# Altium integrated library ECE AD19Components_22V1.IntLib: 365 symbols (part 3 of 4)
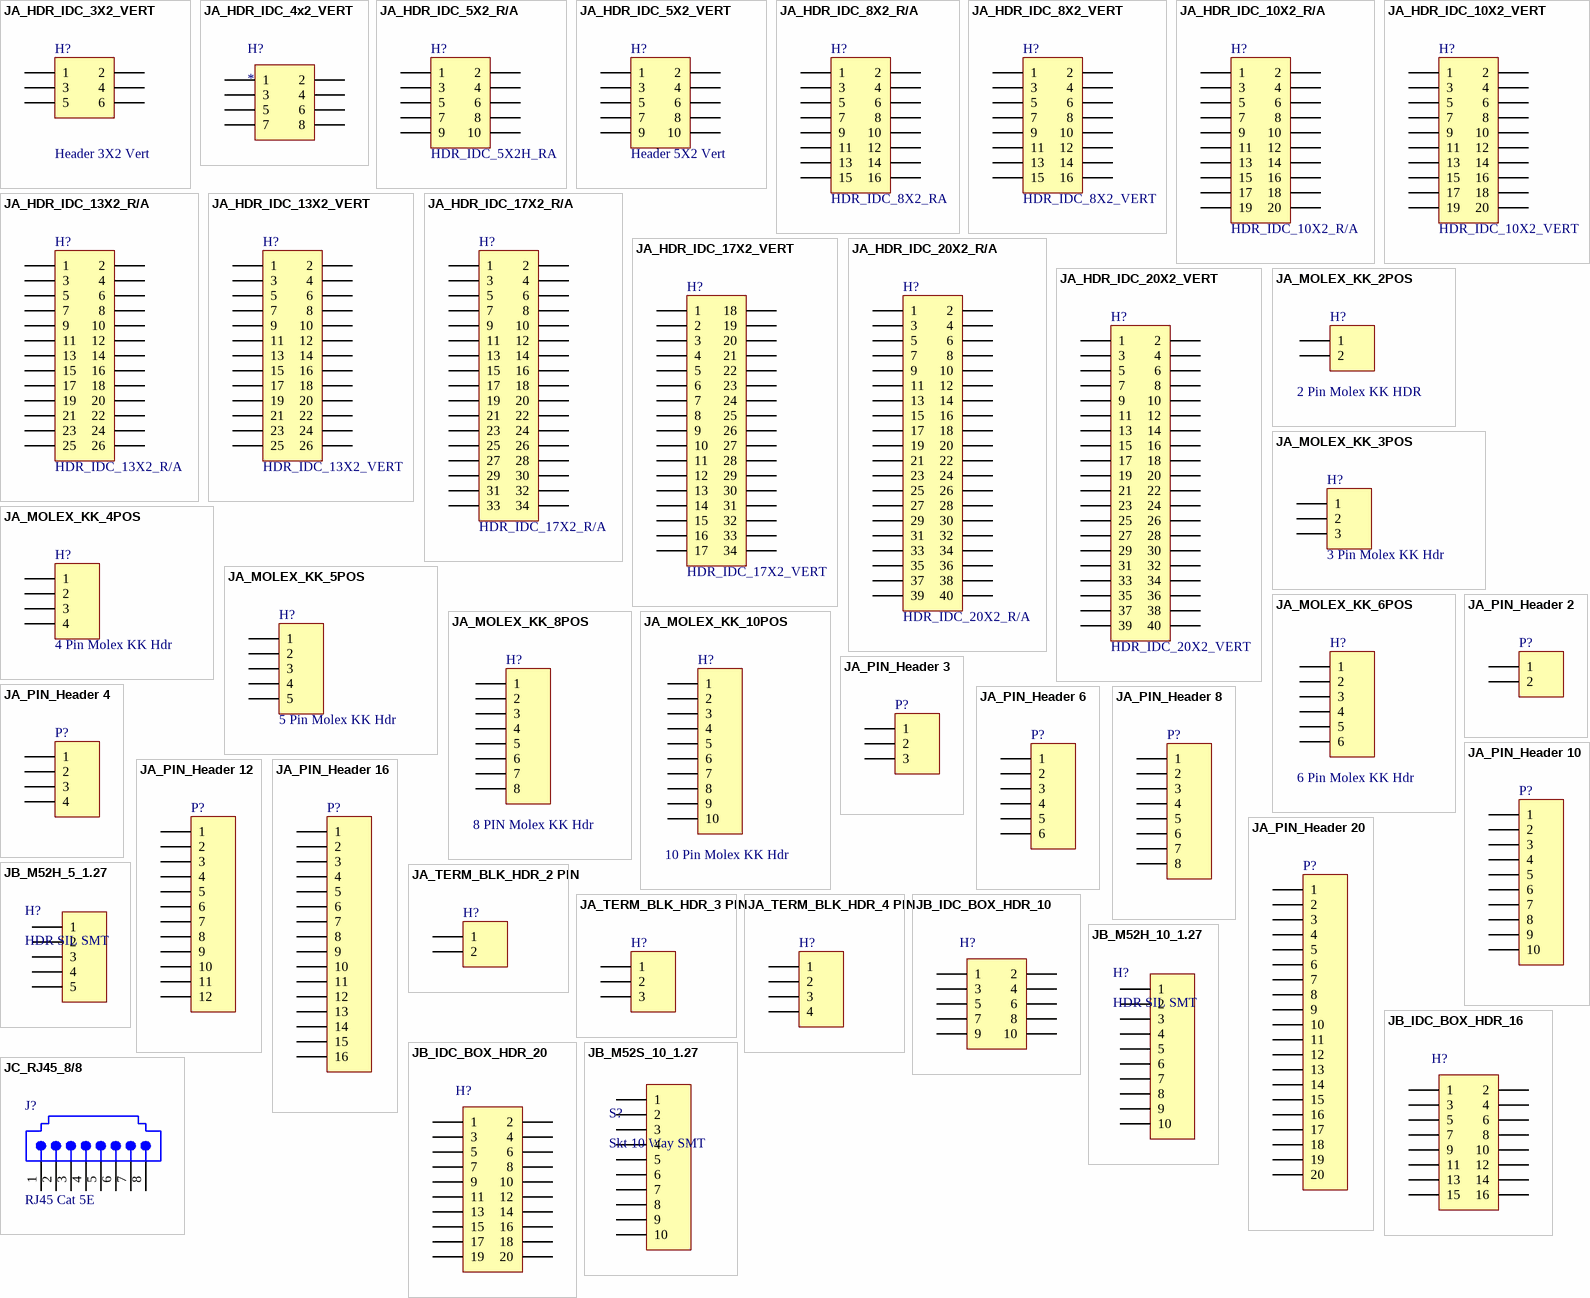
[diagram p14: symbols JA_HDR_IDC_3X2_VERT to JC_RJ45_8/8]

## JA_HDR_IDC_20X2_VERT
designator H?, comment HDR_IDC_20X2_VERT
IDC Header, 2.54mm, 40-Pin, Vert; Supplier: ECE Dept; Supplier 1: Farnell; Supplier Part Number 1: 1096993; Storage Location: ECE Dept Store
footprint IDC2.54-V40D (Connector; IDC, Low Profile Male Header, Thru-Hole; 40 Position; Vertical; Pitch 2.54 mm; Body 58.42 x 9.2 x 9.45 mm (LxWxH))
signal-integrity model Connector
pins: 1, 2, 3, 4, 5, 6, 7, 8, 9, 10, 11, 12, 13, 14, 15, 16, 17, 18, 19, 20, 21, 22, 23, 24, 25, 26, 27, 28, 29, 30, 31, 32, 33, 34, 35, 36, 37, 38, 39, 40

## JA_MOLEX_KK_2POS
designator H?, comment 2 Pin Molex KK HDR
CONN HEADER 2POS 2.54mm VERT_Thru Hole; Supplier 1: Farnell; Supplier Part Number 1: 1462926; Supplier: ECE Dept; Storage Location: ECE Dept Store; Value: 2 Pin Molex KK HDR
footprint MOLEX_KK_2_HDR
signal-integrity model Connector
pins: 1, 2

## JA_MOLEX_KK_3POS
designator H?, comment 3 Pin Molex KK Hdr
CONN HEADER 3POS 2.54mm VERT_Thru Hole; Manufacturer: Molex; Manufacturer PN: 22-23-2031; Supplier Part Number 1: 9731156; Supplier: ECE Dept; Supplier 1: Farnell; Storage Location: ECE Dept Store; Value: 3 Pin Molex KK Hdr
signal-integrity model Connector
footprint MOLEX_KK_3_HDR
pins: 1, 2, 3

## JA_MOLEX_KK_4POS
designator H?, comment 4 Pin Molex KK Hdr
CONN HEADER 4POS 2.54mm VERT_Thru Hole; Manufacturer: Molex; Manufacturer PN: 22-23-2041; Supplier Part Number 1: 9731164; Supplier: ECE Dept; Supplier 1: Farnell; Storage Location: ECE Dept Store; Value: 4 Pin Molex KK Hdr
signal-integrity model Connector
footprint MOLEX_KK_4_HDR
pins: 1, 2, 3, 4

## JA_MOLEX_KK_5POS
designator H?, comment 5 Pin Molex KK Hdr
CONN HEADER 5POS 2.54mm VERT_Thru Hole; Manufacturer: Molex; Manufacturer PN: 22-23-2051; Supplier Part Number 1: 9731679; Supplier: ECE Dept; Supplier 1: Farnell; Storage Location: ECE Dept Store; Value: 5 Pin Molex KK Hdr
signal-integrity model Connector
footprint MOLEX_KK_5_HDR
pins: 1, 2, 3, 4, 5

## JA_MOLEX_KK_6POS
designator H?, comment 6 Pin Molex KK Hdr
CONN HEADER 6POS 2.54mm VERT_Thru Hole; Supplier Part Number 1: 1462922; Supplier: ECE Dept; Supplier 1: Farnell; Storage Location: ECE Dept Store; Value: 6 Pin Molex KK Hdr
footprint MOLEX_KK_6_HDR
signal-integrity model Connector
pins: 1, 2, 3, 4, 5, 6

## JA_MOLEX_KK_8POS
designator H?, comment 8 PIN Molex KK Hdr
CONN HEADER 8POS 2.54mm VERT_Thru Hole; Supplier 1: Farnell; Supplier Part Number 1: 1756826; Supplier: ECE Dept; Storage Location: ECE Dept Store; Value: 8 PIN Molex KK Hdr
footprint MOLEX_KK_8_HDR
signal-integrity model Connector
pins: 1, 2, 3, 4, 5, 6, 7, 8

## JA_MOLEX_KK_10POS
designator H?, comment 10 Pin Molex KK Hdr
CONN HEADER 10POS 2.54mm VERT_ Thru Hole; Supplier 1: Farnell; Supplier Part Number 1: 1756828; Supplier: ECE Dept; Storage Location: ECE Dept Store; Value: 10 Pin Molex KK Hdr
footprint MOLEX_KK_10_HDR
signal-integrity model Connector
pins: 1, 2, 3, 4, 5, 6, 7, 8, 9, 10

## JA_PIN_Header 2
designator P?
Header, 2-Pin; LatestRevisionDate: 17-Jul-2002; LatestRevisionNote: Re-released for DXP Platform.; Publisher: Altium Limited
footprint HDR1X2 (Connector; Header; 2 Position)
signal-integrity model Connector
pins: 1, 2

## JA_PIN_Header 3
designator P?
Header, 3-Pin; LatestRevisionDate: 17-Jul-2002; LatestRevisionNote: Re-released for DXP Platform.; Publisher: Altium Limited
footprint HDR1X3 (Connector; Header; 3 Position)
signal-integrity model Connector
pins: 1, 2, 3

## JA_PIN_Header 4
designator P?
Header, 4-Pin; LatestRevisionDate: 17-Jul-2002; LatestRevisionNote: Re-released for DXP Platform.; Publisher: Altium Limited
footprint HDR1X4 (Connector; Header; 4 Position)
signal-integrity model Connector
pins: 1, 2, 3, 4

## JA_PIN_Header 6
designator P?
Header, 6-Pin; LatestRevisionDate: 17-Jul-2002; LatestRevisionNote: Re-released for DXP Platform.; Publisher: Altium Limited
footprint HDR1X6 (Connector; Header; 6 Position)
signal-integrity model Connector
pins: 1, 2, 3, 4, 5, 6

## JA_PIN_Header 8
designator P?
Header, 8-Pin; LatestRevisionDate: 17-Jul-2002; LatestRevisionNote: Re-released for DXP Platform.; Publisher: Altium Limited
footprint HDR1X8 (Connector; Header; 8 Position)
signal-integrity model Connector
pins: 1, 2, 3, 4, 5, 6, 7, 8

## JA_PIN_Header 10
designator P?
Header, 10-Pin; LatestRevisionDate: 17-Jul-2002; LatestRevisionNote: Re-released for DXP Platform.; Publisher: Altium Limited
footprint HDR1X10 (Connector; Header; 10 Position)
signal-integrity model Connector
pins: 1, 2, 3, 4, 5, 6, 7, 8, 9, 10

## JA_PIN_Header 12
designator P?
Header, 12-Pin; LatestRevisionDate: 17-Jul-2002; LatestRevisionNote: Re-released for DXP Platform.; Publisher: Altium Limited
footprint HDR1X12 (Connector; Header; 12 Position)
signal-integrity model Connector
pins: 1, 2, 3, 4, 5, 6, 7, 8, 9, 10, 11, 12

## JA_PIN_Header 16
designator P?
Header, 16-Pin; LatestRevisionDate: 17-Jul-2002; LatestRevisionNote: Re-released for DXP Platform.; Publisher: Altium Limited
footprint HDR1X16 (Connector; Header; 16 Position)
signal-integrity model Connector
pins: 1, 2, 3, 4, 5, 6, 7, 8, 9, 10, 11, 12, 13, 14, 15, 16

## JA_PIN_Header 20
designator P?
Header, 20-Pin; LatestRevisionDate: 17-Jul-2002; LatestRevisionNote: Re-released for DXP Platform.; Publisher: Altium Limited
footprint HDR1X20 (Connector; Header; 20 Position)
signal-integrity model Connector
pins: 1, 2, 3, 4, 5, 6, 7, 8, 9, 10, 11, 12, 13, 14, 15, 16, 17, 18, 19, 20

## JA_TERM_BLK_HDR_2 PIN
designator H?
TERM_BLK_HEADER 5.08mm 2 Pos R/A Thru Hole; Manufacturer: Phoenix Contact; Manufacturer Part Number: 1727010; Max Supply Voltage: 160V; Max Current Rating: 12A; Verify: *; Supplier Part Number 1: 3704579; Supplier: ECE Dept; Supplier 1: Farnell; Storage Location: ECE Dept Store; Supplier 2: Digi-Key; Supplier Part Number 2: 277-1947-ND
signal-integrity model Connector
footprint TMHDR2 (5.08mm Pluggable Terminal Header)
pins: 1, 2

## JA_TERM_BLK_HDR_3 PIN
designator H?
TERM_BLK_HEADER 5.08mm 3-Pos vert Thru Hole; Supplier: ECE Dept; Storage Location: ECE Dept Store
footprint TMHDR3 (5.08mm Pluggable Terminal Header)
pins: 1, 2, 3

## JA_TERM_BLK_HDR_4 PIN
designator H?
TERM_BLK_HEADER 5.08mm 4-Pos R/A Thru Hole; Supplier Part Number 1: 3704592; Supplier: ECE Dept; Supplier 1: Farnell; Storage Location: ECE Dept Store
footprint TMHDR4 (5.08mm Pluggable Terminal Header)
pins: 1, 2, 3, 4

## JB_IDC_BOX_HDR_10
designator H?  (value not drawn)
IDC BOX HEADER 2.54mm 10POS SMT; Manufacturer: CNC Tech; Manufacturer Part Number: 3020-10-0300-00; Connector Type: Header, Shrouded; Number of Positions: 10; Pitch: 0.100" (2.54mm); Supplier 1: Digi-Key; Contact Type: Male Pin; Number of Rows: 2; Row Spacing: 0.100" (2.54mm); Supplier: Digi-Key; Supplier Part Number 1: 1175-1621-ND; Supplier Part Number: 1175-1621-ND
footprint 3020-10-0300-00 (IDC BOX HEADER 2.54mm 10POS)
pins: 1, 2, 3, 4, 5, 6, 7, 8, 9, 10

## JB_IDC_BOX_HDR_16
designator H?  (value not drawn)
IDC BOX HEADER 2.54mm 16POS SMT; Manufacturer: CNC Tech; Manufacturer Part Number: 3020-16-0300-00; Connector Type: Header, Shrouded; Number of Positions: 16; Pitch: 0.100" (2.54mm); Contact Type: Male Pin; Mounting Type: Surface Mount; Number of Rows: 2; Row Spacing: 0.100" (2.54mm); Termination: Solder; Supplier 1: Digi-Key; Supplier Part Number 1: 1175-1624-ND
footprint 3020-16-0300-00 (IDC BOX HEADER 2.54mm 16POS)
pins: 1, 2, 3, 4, 5, 6, 7, 8, 9, 10, 11, 12, 13, 14, 15, 16

## JB_IDC_BOX_HDR_20
designator H?  (value not drawn)
IDC BOX HEADER 2.54mm 20POS SMT; Manufacturer: CNC Tech; Manufacturer Part Number: 3020-20-0300-00; Connector Type: Header, Shrouded; Number of Positions: 20; Pitch: 0.100" (2.54mm); Contact Type: Male Pin; Mounting Type: Surface Mount; Number of Rows: 2; Row Spacing: 0.100" (2.54mm); Supplier 1: Digi-Key; Supplier Part Number 1: 1175-1623-ND
footprint 3020-20-0300-00 (IDC BOX HEADER 2.54mm 20POS)
pins: 1, 2, 3, 4, 5, 6, 7, 8, 9, 10, 11, 12, 13, 14, 15, 16, 17, 18, 19, 20

## JB_M52H_5_1.27
designator H?, comment HDR SIL SMT
Header 1.27mm Pitch SIL 5 Way SMT; Manufacturer: HARWIN; Manufacturer Part Number: M52-040000P0545; Contact Termination: Surface Mount Vertical; Current Rating: 1; Pitch Spacing: 1.27; No. of Contacts: 5; Gender: Header; Lead Spacing: 1.27; No. of Rows: 1; No. of Ways: 5; Supplier 1: Farnell; Supplier Part Number 1: 1099569; Storage Location: PCB Assembly WS; Supplier: ECE Dept
footprint M52-040000P0545 (1.27mm SIL SMT 5 way Pin Header)
pins: 1, 2, 3, 4, 5

## JB_M52H_10_1.27
designator H?, comment HDR SIL SMT
Header 1.27mm Pitch SIL 10 Way SMT; Manufacturer: HARWIN; Manufacturer Part Number: M52-040000P1045; Contact Termination: Surface Mount Vertical; Current Rating: 1; No. of Poles: 10; Pitch Spacing: 1.27; Gender: Header; Lead Spacing: 1.27; No. of Rows: 1; Supplier 1: Farnell; Supplier Part Number 1: 1099570; Storage Location: PCB Assembly WS; Supplier: ECE Dept
footprint M52-040000P1045 (1.27mm SIL SMT 10 way Pin Header)
pins: 1, 2, 3, 4, 5, 6, 7, 8, 9, 10

## JB_M52S_10_1.27
designator S?, comment Skt 10 Way SMT
Socket 1.27mm Pitch SIL 10 Way SMT; Manufacturer: HARWIN; Manufacturer Part Number: M52-5051045; Contact Termination: Surface Mount Vertical; Current Rating: 1; External Length / Height: 4.6; No. of Contacts: 10; Pitch Spacing: 1.27; Lead Spacing: 1.27; Mounting Type: Surface Mount; No. of Ways: 10; Supplier 1: Farnell; Supplier Part Number 1: 1099548; Storage Location: PCB Assembly WS; Supplier: ECE Dept
footprint M52-5051045 (1.27mm SIL Vert 10 way SMT Socket)
pins: 1, 2, 3, 4, 5, 6, 7, 8, 9, 10

## JC_RJ45_8/8
designator J?, comment RJ45 Cat 5E
Right Angle, Standard Profile, RJ45-Keyed, Flange Mount PCB Jack; Manufacturer: Molex; Manufacturer PN: 85503-5001; PCB_Mounting: Thru-Hole; LAN Cat: Cat 5E; Supplier: ECE Dept; Supplier PN: 2060718; Supplier 1: Farnell; Supplier Part Number 1: 2060718; Storage Location: ECE Dept Store
signal-integrity model Modular Jack
footprint JACK1.27-2H8B (Connector; PCB Jack, Thru-Hole; 1-Port, 8 Positions, 8 Loaded; Unshielded without Lightpipes; Right Angle)
pins: 1, 2, 3, 4, 5, 6, 7, 8

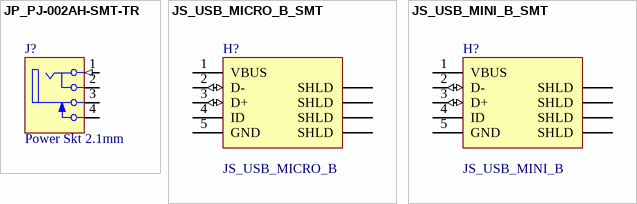
[diagram p6: symbols JP_PJ-002AH-SMT-TR to JS_USB_MINI_B_SMT]

## JP_PJ-002AH-SMT-TR
designator J?, comment Power Skt 2.1mm
Power supply chassis socket 2.1mm, SMD, Right Angle, with break contacts, 24V DC, 5A; Manufacturer: CUI; Manufacturer Part Number: PJ-002AH-SMT-TR; Gender: Male; Shielding: Unshielded; Connector Type: Jack; Insulation Resistance: 100MR; Number of Conductors: 2; ComponentLink1URL: https://datasheet.ciiva.com/7368/pj-002ah-smt-7368373.pdf; ComponentLink1Description: https://datasheet.ciiva.com/7368/pj-002ah-smt-7368373.pdf; Supplier 1: Digi-Key; Stock 1: 119512; Pricing 1: 1=1.44, 10=1.262, 25=1.188, 50=1.1386, 100=1.089 (USD); Mount: Surface Mount; Colour: Black; Contact Material: Brass,Copper Alloy; Contact Plating: Nickel; Housing Colour: Black; Housing Material: Thermoplastic; Min Operating Temperature: -25°C; Max Operating Temperature: 85°C; Package Quantity: 350; Current Rating: 5A; Termination: SMD/SMT; Contact Gender: Male; Packaging: Tape and Reel; Voltage Rating: 24V; Orientation: Horizontal; Lead Free: Lead Free; Flammability Rating: UL94 V-0; Supplier Part Number 1: CP-002AHPJCT-ND
footprint DC-JACK PJ-002AH (Connector; Low Power Socket, SM, Right Angle, Body 14.8 x 9 x 11 mm (LxWxH))
pins: 1 T (in) "Tip/Left Channel/(+)", 2 TN "Tip Normal (Break Contact)", 3 S (power) "Sleeve (Ground)", 4 S (power) "Sleeve (Ground)"

## JS_USB_MICRO_B_SMT
designator H?, comment JS_USB_MICRO_B
CONN USB MICRO B RECPT SMT R/A; Manufacturer: FCI; Manufacturer Part Number: 10118194-0001LF; Gender: Receptacle; Number of Contacts: 5; Specifications: USB 2.0; Supplier 1: Digi-Key; Supplier Part Number 1: 609-4618-1-ND; Features: Shielded, Solder Retention; Mounting Type: Surface Mount, Right Angle, Horizontal
signal-integrity model USB2.0
footprint FCI_USB_10118194-0001LF (Micro USB B Type Receptacle)
pins: 1 VBUS (power) "Power", 2 D- (io) "-DATA", 3 D+ (io) "+DATA", 4 ID (power) "Ground", 5 GND "Shield", 6 SHLD "Shield", 6 SHLD "Shield", 6 SHLD "Shield", 6 SHLD "Shield"

## JS_USB_MINI_B_SMT
designator H?, comment JS_USB_MINI_B
USB 2.0, Right Angle, SMT, B Type, Receptacle, 5 Position,; Manufacturer: FCI; Manufacturer PN: 10033526-N3212MLF; Supplier 1: Farnell; Supplier Part Number 1: 1824416; Storage Location: PCB Assembly WS; Supplier: ECE Dept
signal-integrity model USB2.0
footprint USB/SM0.8-6H5 (Connector; USB2.0, Type B, SM; 5 Position; Right Angle)
pins: 1 VBUS (power) "Power", 2 D- (io) "-DATA", 3 D+ (io) "+DATA", 4 ID (power) "Ground", 5 GND "Shield", 6 SHLD "Shield", 7 SHLD "Shield", 8 SHLD "Shield", 9 SHLD "Shield"


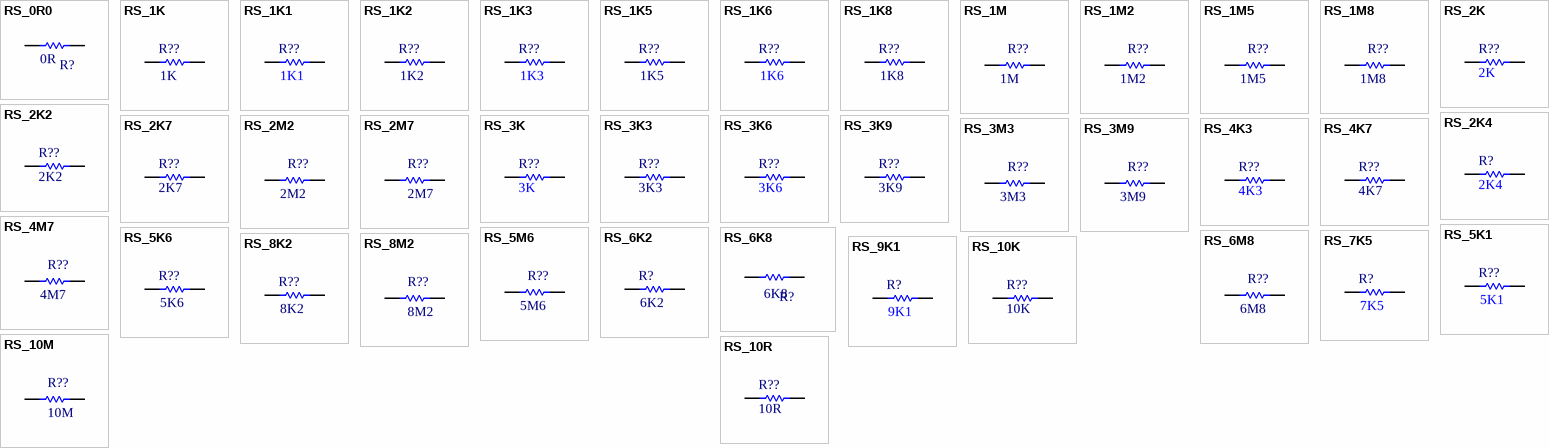
[diagram p7: symbols RS_0R0 to RS_10R]

## RS_0R0
designator R?, comment 0R
RES 0.0 OHM 1/10W 5% 0603 SMD; Storage Location: PCB Assembly WS; Supplier: ECE Dept; Value: 0R
simulation model RESISTOR (Resistor)
signal-integrity model Res
footprint RESC1608L (Chip Resistor, Body 1.6x0.8mm, IPC High Density)
footprint RESC1608N (Chip Resistor, Body 1.6x0.8mm, IPC Medium Density)
pins: 1, 2

## RS_1K
designator R??, comment 1K
RES 1.0K OHM 1/10W 5% 0603 SMD; Storage Location: PCB Assembly WS; Supplier: ECE Dept; Value: 1K
simulation model RESISTOR (Resistor)
signal-integrity model Res
footprint RESC1608L (Chip Resistor, Body 1.6x0.8mm, IPC High Density)
footprint RESC1608N (Chip Resistor, Body 1.6x0.8mm, IPC Medium Density)
pins: 1, 2

## RS_1K1
designator R??, comment 1K1
RES 1.1K OHM 1/10W 5% 0603 SMD; Storage Location: PCB Assembly WS; Supplier: ECE Dept; Value: 1K1
simulation model RESISTOR (Resistor)
signal-integrity model Res
footprint RESC1608L (Chip Resistor, Body 1.6x0.8mm, IPC High Density)
footprint RESC1608N (Chip Resistor, Body 1.6x0.8mm, IPC Medium Density)
pins: 1, 2

## RS_1K2
designator R??, comment 1K2
RES 1.2K OHM 1/10W 5% 0603 SMD; Storage Location: PCB Assembly WS; Supplier: ECE Dept; Value: 1K2
simulation model RESISTOR (Resistor)
signal-integrity model Res
footprint RESC1608N (Chip Resistor, Body 1.6x0.8mm, IPC Medium Density)
footprint RESC1608L (Chip Resistor, Body 1.6x0.8mm, IPC High Density)
pins: 1, 2

## RS_1K3
designator R??, comment 1K3
RES 1.3K OHM 1/10W 5% 0603 SMD; Storage Location: PCB Assembly WS; Supplier: ECE Dept; Value: 1K3
simulation model RESISTOR (Resistor)
signal-integrity model Res
footprint RESC1608L (Chip Resistor, Body 1.6x0.8mm, IPC High Density)
footprint RESC1608N (Chip Resistor, Body 1.6x0.8mm, IPC Medium Density)
pins: 1, 2

## RS_1K5
designator R??, comment 1K5
RES 1.5K OHM 1/10W 5% 0603 SMD; Storage Location: PCB Assembly WS; Supplier: ECE Dept; Value: 1K5
simulation model RESISTOR (Resistor)
signal-integrity model Res
footprint RESC1608L (Chip Resistor, Body 1.6x0.8mm, IPC High Density)
footprint RESC1608N (Chip Resistor, Body 1.6x0.8mm, IPC Medium Density)
pins: 1, 2

## RS_1K6
designator R??, comment 1K6
RES 1.6K OHM 1/10W 5% 0603 SMD; Storage Location: PCB Assembly WS; Supplier: ECE Dept; Value: 1K6
simulation model RESISTOR (Resistor)
signal-integrity model Res
footprint RESC1608L (Chip Resistor, Body 1.6x0.8mm, IPC High Density)
footprint RESC1608N (Chip Resistor, Body 1.6x0.8mm, IPC Medium Density)
pins: 1, 2

## RS_1K8
designator R??, comment 1K8
RES 1.8K OHM 1/10W 5% 0603 SMD; Storage Location: PCB Assembly WS; Supplier: ECE Dept; Value: 1K8
simulation model RES (Resistor)
signal-integrity model Res
footprint RESC1608L (Chip Resistor, Body 1.6x0.8mm, IPC High Density)
footprint RESC1608N (Chip Resistor, Body 1.6x0.8mm, IPC Medium Density)
pins: 1, 2

## RS_1M
designator R??, comment 1M
RES 1.0M OHM 1/10W 5% 0603 SMD; Supplier: ECE Dept; Storage Location: PCB Assembly WS; Value: 1M
footprint RESC1608L (Chip Resistor, Body 1.6x0.8mm, IPC High Density)
footprint RESC1608N (Chip Resistor, Body 1.6x0.8mm, IPC Medium Density)
signal-integrity model Res (Model Description)
simulation model RES (resistor)
pins: 1, 2

## RS_1M2
designator R??, comment 1M2
RES 1.2M OHM 1/10W 5% 0603 SMD; Storage Location: PCB Assembly WS; Supplier: ECE Dept; Value: 1M2
footprint RESC1608L (Chip Resistor, Body 1.6x0.8mm, IPC High Density)
footprint RESC1608N (Chip Resistor, Body 1.6x0.8mm, IPC Medium Density)
signal-integrity model Res (Model Description)
simulation model RES (Defaultr resistor)
pins: 1, 2

## RS_1M5
designator R??, comment 1M5
RES 1.5M OHM 1/10W 5% 0603 SMD; Supplier: ECE Dept; Storage Location: PCB Assembly WS; Value: 1M5
footprint RESC1608L (Chip Resistor, Body 1.6x0.8mm, IPC High Density)
footprint RESC1608N (Chip Resistor, Body 1.6x0.8mm, IPC Medium Density)
signal-integrity model Res (Model Description)
simulation model RES (Default  resistor)
pins: 1, 2

## RS_1M8
designator R??, comment 1M8
RES 1.8M OHM 1/10W 5% 0603 SMD; Storage Location: PCB Assembly WS; Supplier: ECE Dept; Value: 1M8
footprint RESC1608L (Chip Resistor, Body 1.6x0.8mm, IPC High Density)
footprint RESC1608N (Chip Resistor, Body 1.6x0.8mm, IPC Medium Density)
signal-integrity model Res (Model Description)
simulation model RES (Default resistor)
pins: 1, 2

## RS_2K
designator R??, comment 2K
RES 2K OHM 1/10W 5% 0603 SMD; Storage Location: PCB Assembly WS; Supplier: ECE Dept; Value: 2K
simulation model RESISTOR (Resistor)
signal-integrity model Res
footprint RESC1608L (Chip Resistor, Body 1.6x0.8mm, IPC High Density)
footprint RESC1608N (Chip Resistor, Body 1.6x0.8mm, IPC Medium Density)
pins: 1, 2

## RS_2K2
designator R??, comment 2K2
RES 2.2K OHM 1/10W 5% 0603 SMD; Storage Location: PCB Assembly WS; Supplier: ECE Dept; Value: 2K2
simulation model RESISTOR (Resistor)
signal-integrity model Res
footprint RESC1608L (Chip Resistor, Body 1.6x0.8mm, IPC High Density)
footprint RESC1608N (Chip Resistor, Body 1.6x0.8mm, IPC Medium Density)
pins: 1, 2

## RS_2K4
designator R?, comment 2K4
RES 2.4K OHM 1/10W 5% 0603 SMD; Storage Location: PCB Assembly WS; Supplier: ECE Dept; Value: 2K4
simulation model RESISTOR (Resistor)
signal-integrity model Res
footprint RESC1608L (Chip Resistor, Body 1.6x0.8mm, IPC High Density)
footprint RESC1608N (Chip Resistor, Body 1.6x0.8mm, IPC Medium Density)
pins: 1, 2

## RS_2K7
designator R??, comment 2K7
RES 2.7K OHM 1/10W 5% 0603 SMD; Storage Location: PCB Assembly WS; Supplier: ECE Dept; Value: 2K7
simulation model RESISTOR (Resistor)
signal-integrity model Res
footprint RESC1608L (Chip Resistor, Body 1.6x0.8mm, IPC High Density)
footprint RESC1608N (Chip Resistor, Body 1.6x0.8mm, IPC Medium Density)
pins: 1, 2

## RS_2M2
designator R??, comment 2M2
RES 2.2M OHM 1/10W 5% 0603 SMD; Storage Location: PCB Assembly WS; Supplier: ECE Dept; Value: 2M2
footprint RESC1608L (Chip Resistor, Body 1.6x0.8mm, IPC High Density)
footprint RESC1608N (Chip Resistor, Body 1.6x0.8mm, IPC Medium Density)
signal-integrity model Res (Model Description)
simulation model RES (resistor)
pins: 1, 2

## RS_2M7
designator R??, comment 2M7
RES 2.7M OHM 1/10W 5% 0603 SMD; Storage Location: PCB Assembly WS; Supplier: ECE Dept; Value: 2M7
footprint RESC1608L (Chip Resistor, Body 1.6x0.8mm, IPC High Density)
footprint RESC1608N (Chip Resistor, Body 1.6x0.8mm, IPC Medium Density)
signal-integrity model Res (Model Description)
simulation model RES (resistor)
pins: 1, 2

## RS_3K
designator R??, comment 3K
RES 3K OHM 1/10W 5% 0603 SMD; Storage Location: PCB Assembly WS; Supplier: ECE Dept; Value: 3K
simulation model RESISTOR (Resistor)
signal-integrity model Res
footprint RESC1608L (Chip Resistor, Body 1.6x0.8mm, IPC High Density)
footprint RESC1608N (Chip Resistor, Body 1.6x0.8mm, IPC Medium Density)
pins: 1, 2

## RS_3K3
designator R??, comment 3K3
RES 3.3K OHM 1/10W 5% 0603 SMD; Storage Location: PCB Assembly WS; Supplier: ECE Dept; Value: 3K3
simulation model RESISTOR (Resistor)
signal-integrity model Res
footprint RESC1608L (Chip Resistor, Body 1.6x0.8mm, IPC High Density)
footprint RESC1608N (Chip Resistor, Body 1.6x0.8mm, IPC Medium Density)
pins: 1, 2

## RS_3K6
designator R??, comment 3K6
RES 3.6K OHM 1/10W 5% 0603 SMD; Storage Location: PCB Assembly WS; Supplier: ECE Dept; Value: 3K6
simulation model RESISTOR (Resistor)
signal-integrity model Res
footprint RESC1608L (Chip Resistor, Body 1.6x0.8mm, IPC High Density)
footprint RESC1608N (Chip Resistor, Body 1.6x0.8mm, IPC Medium Density)
pins: 1, 2

## RS_3K9
designator R??, comment 3K9
RES 3.9K OHM 1/10W 5% 0603 SMD; Storage Location: PCB Assembly WS; Supplier: ECE Dept; Value: 3K9
simulation model RESISTOR (Resistor)
signal-integrity model Res
footprint RESC1608L (Chip Resistor, Body 1.6x0.8mm, IPC High Density)
footprint RESC1608N (Chip Resistor, Body 1.6x0.8mm, IPC Medium Density)
pins: 1, 2

## RS_3M3
designator R??, comment 3M3
RES 3.3M OHM 1/10W 5% 0603 SMD; Storage Location: PCB Assembly WS; Supplier: ECE Dept; Value: 3M3
footprint RESC1608L (Chip Resistor, Body 1.6x0.8mm, IPC High Density)
footprint RESC1608N (Chip Resistor, Body 1.6x0.8mm, IPC Medium Density)
signal-integrity model Res (Model Description)
simulation model RES (resistor)
pins: 1, 2

## RS_3M9
designator R??, comment 3M9
RES 3.9M OHM 1/10W 5% 0603 SMD; Storage Location: PCB Assembly WS; Supplier: ECE Dept; Value: 3M9
footprint RESC1608L (Chip Resistor, Body 1.6x0.8mm, IPC High Density)
footprint RESC1608N (Chip Resistor, Body 1.6x0.8mm, IPC Medium Density)
signal-integrity model Res (Model Description)
simulation model RES (resistor)
pins: 1, 2

## RS_4K3
designator R??, comment 4K3
RES 4.3K OHM 1/10W 5% 0603 SMD; Storage Location: PCB Assembly WS; Supplier: ECE Dept; Value: 4K3
simulation model RESISTOR (Resistor)
signal-integrity model Res
footprint RESC1608L (Chip Resistor, Body 1.6x0.8mm, IPC High Density)
footprint RESC1608N (Chip Resistor, Body 1.6x0.8mm, IPC Medium Density)
pins: 1, 2

## RS_4K7
designator R??, comment 4K7
RES 4.7K OHM 1/10W 5% 0603 SMD; Storage Location: PCB Assembly WS; Supplier: ECE Dept; Value: 4K7
simulation model RESISTOR (Resistor)
signal-integrity model Res
footprint RESC1608L (Chip Resistor, Body 1.6x0.8mm, IPC High Density)
footprint RESC1608N (Chip Resistor, Body 1.6x0.8mm, IPC Medium Density)
pins: 1, 2

## RS_4M7
designator R??, comment 4M7
RES 4.7M OHM 1/10W 5% 0603 SMD; Storage Location: PCB Assembly WS; Supplier: ECE Dept; Value: 4M7
footprint RESC1608L (Chip Resistor, Body 1.6x0.8mm, IPC High Density)
footprint RESC1608N (Chip Resistor, Body 1.6x0.8mm, IPC Medium Density)
signal-integrity model Res (Model Description)
simulation model RES (resistor)
pins: 1, 2

## RS_5K1
designator R??, comment 5K1
RES 5.1K OHM 1/10W 5% 0603 SMD; Storage Location: PCB Assembly WS; Supplier: ECE Dept; Value: 5K1
simulation model RESISTOR (Resistor)
signal-integrity model Res
footprint RESC1608L (Chip Resistor, Body 1.6x0.8mm, IPC High Density)
footprint RESC1608N (Chip Resistor, Body 1.6x0.8mm, IPC Medium Density)
pins: 1, 2

## RS_5K6
designator R??, comment 5K6
RES 5.6K OHM 1/10W 5% 0603 SMD; Storage Location: PCB Assembly WS; Supplier: ECE Dept; Value: 5K6
simulation model RESISTOR (Resistor)
signal-integrity model Res
footprint RESC1608L (Chip Resistor, Body 1.6x0.8mm, IPC High Density)
footprint RESC1608N (Chip Resistor, Body 1.6x0.8mm, IPC Medium Density)
pins: 1, 2

## RS_5M6
designator R??, comment 5M6
RES 5.6M OHM 1/10W 5% 0603 SMD; Storage Location: PCB Assembly WS; Supplier: ECE Dept; Value: 5M6
footprint RESC1608L (Chip Resistor, Body 1.6x0.8mm, IPC High Density)
footprint RESC1608N (Chip Resistor, Body 1.6x0.8mm, IPC Medium Density)
signal-integrity model Res (Model Description)
simulation model RES (resistor)
pins: 1, 2

## RS_6K2
designator R?, comment 6K2
RES 6.2K OHM 1/10W 5% 0603 SMD; Storage Location: PCB Assembly WS; Supplier: ECE Dept; Value: 6K2
simulation model RESISTOR (Resistor)
signal-integrity model Res
footprint RESC1608L (Chip Resistor, Body 1.6x0.8mm, IPC High Density)
footprint RESC1608N (Chip Resistor, Body 1.6x0.8mm, IPC Medium Density)
pins: 1, 2

## RS_6K8
designator R?, comment 6K8
RES 6k8 OHM 1/10W 5% 0603 SMD; Storage Location: PCB Assembly WS; Supplier: ECE Dept; Value: 6K8
simulation model RESISTOR (Resistor)
signal-integrity model Res
footprint RESC1608L (Chip Resistor, Body 1.6x0.8mm, IPC High Density)
footprint RESC1608N (Chip Resistor, Body 1.6x0.8mm, IPC Medium Density)
pins: 1, 2

## RS_6M8
designator R??, comment 6M8
RES 6.8M OHM 1/10W 5% 0603 SMD; Storage Location: PCB Assembly WS; Supplier: ECE Dept; Value: 6M8
footprint RESC1608L (Chip Resistor, Body 1.6x0.8mm, IPC High Density)
footprint RESC1608N (Chip Resistor, Body 1.6x0.8mm, IPC Medium Density)
signal-integrity model Res (Model Description)
simulation model RES (resistor)
pins: 1, 2

## RS_7K5
designator R?, comment 7K5
RES 7.5K OHM 1/10W 5% 0603 SMD; Storage Location: PCB Assembly WS; Supplier: ECE Dept; Value: 7K5
simulation model RESISTOR (Resistor)
signal-integrity model Res
footprint RESC1608L (Chip Resistor, Body 1.6x0.8mm, IPC High Density)
footprint RESC1608N (Chip Resistor, Body 1.6x0.8mm, IPC Medium Density)
pins: 1, 2

## RS_8K2
designator R??, comment 8K2
RES 8.2K OHM 1/10W 5% 0603 SMD; Storage Location: PCB Assembly WS; Supplier: ECE Dept; Value: 8K2
simulation model RESISTOR (Resistor)
signal-integrity model Res
footprint RESC1608L (Chip Resistor, Body 1.6x0.8mm, IPC High Density)
footprint RESC1608N (Chip Resistor, Body 1.6x0.8mm, IPC Medium Density)
pins: 1, 2

## RS_8M2
designator R??, comment 8M2
RES 8.2M OHM 1/10W 5% 0603 SMD; Storage Location: PCB Assembly WS; Supplier: ECE Dept; Value: 8M2
footprint RESC1608L (Chip Resistor, Body 1.6x0.8mm, IPC High Density)
footprint RESC1608N (Chip Resistor, Body 1.6x0.8mm, IPC Medium Density)
signal-integrity model Res (Model Description)
simulation model RES (resistor)
pins: 1, 2

## RS_9K1
designator R?, comment 9K1
RES 9.1K OHM 1/10W 5% 0603 SMD; Storage Location: PCB Assembly WS; Supplier: ECE Dept; Value: 9K1
simulation model RESISTOR (Resistor)
signal-integrity model Res
footprint RESC1608L (Chip Resistor, Body 1.6x0.8mm, IPC High Density)
footprint RESC1608N (Chip Resistor, Body 1.6x0.8mm, IPC Medium Density)
pins: 1, 2

## RS_10K
designator R??, comment 10K
RES 10.0K OHM 1/10W 5% 0603 SMD; Storage Location: PCB Assembly WS; Supplier: ECE Dept; Value: 10K
simulation model RESISTOR (Resistor)
signal-integrity model Res
footprint RESC1608L (Chip Resistor, Body 1.6x0.8mm, IPC High Density)
footprint RESC1608N (Chip Resistor, Body 1.6x0.8mm, IPC Medium Density)
pins: 1, 2

## RS_10M
designator R??, comment 10M
RES 10.0M OHM 1/10W 5% 0603 SMD; Storage Location: PCB Assembly WS; Supplier: ECE Dept; Value: 10M
footprint RESC1608N (Chip Resistor, Body 1.6x0.8mm, IPC Medium Density)
signal-integrity model Res (Model Description)
simulation model RES (resistor)
footprint RESC1608L (Chip Resistor, Body 1.6x0.8mm, IPC High Density)
pins: 1, 2

## RS_10R
designator R??, comment 10R
RES 10 OHM 1/10W 5% 0603 SMD; Storage Location: PCB Assembly WS; Supplier: ECE Dept; Value: 10R
simulation model RESISTOR (Resistor)
signal-integrity model Res
footprint RESC1608L (Chip Resistor, Body 1.6x0.8mm, IPC High Density)
footprint RESC1608N (Chip Resistor, Body 1.6x0.8mm, IPC Medium Density)
pins: 1, 2

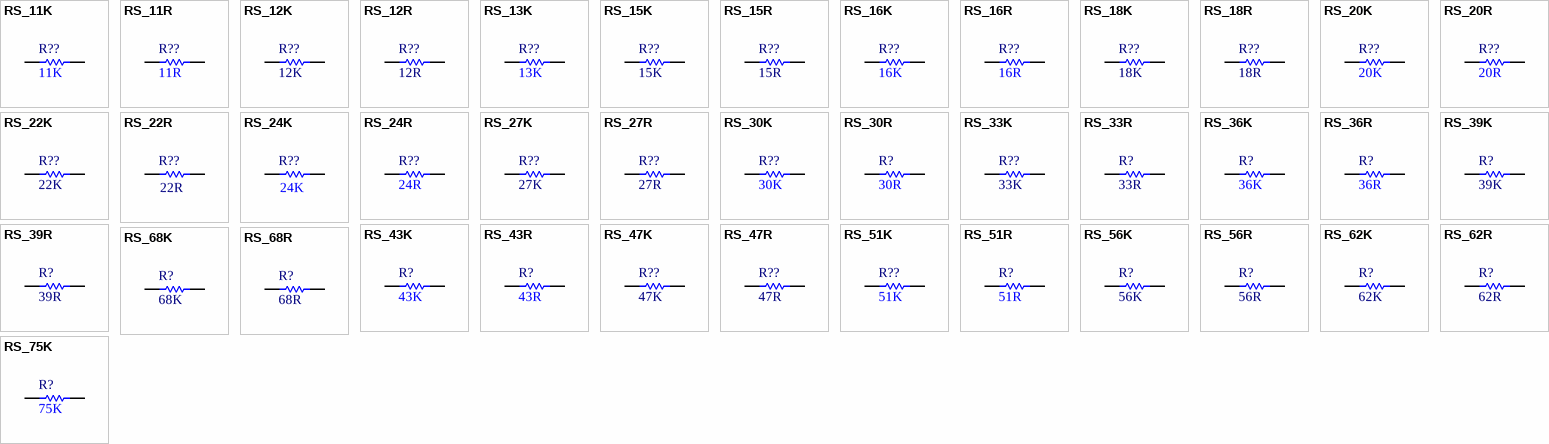
[diagram p8: symbols RS_11K to RS_75K]

## RS_11K
designator R??, comment 11K
RES 11K OHM 1/10W 5% 0603 SMD; Storage Location: PCB Assembly WS; Supplier: ECE Dept; Value: 11K
simulation model RESISTOR (Resistor)
signal-integrity model Res
footprint RESC1608L (Chip Resistor, Body 1.6x0.8mm, IPC High Density)
footprint RESC1608N (Chip Resistor, Body 1.6x0.8mm, IPC Medium Density)
pins: 1, 2

## RS_11R
designator R??, comment 11R
RES 11 OHM 1/10W 5% 0603 SMD; Supplier: ECE Dept; Storage Location: PCB Assembly WS; Value: 11R
simulation model RESISTOR (Resistor)
signal-integrity model Res
footprint RESC1608L (Chip Resistor, Body 1.6x0.8mm, IPC High Density)
footprint RESC1608N (Chip Resistor, Body 1.6x0.8mm, IPC Medium Density)
pins: 1, 2

## RS_12K
designator R??, comment 12K
RES 12K OHM 1/10W 5% 0603 SMD; Storage Location: PCB Assembly WS; Supplier: ECE Dept; Value: 12K
simulation model RESISTOR (Resistor)
signal-integrity model Res
footprint RESC1608L (Chip Resistor, Body 1.6x0.8mm, IPC High Density)
footprint RESC1608N (Chip Resistor, Body 1.6x0.8mm, IPC Medium Density)
pins: 1, 2

## RS_12R
designator R??, comment 12R
RES 12 OHM 1/10W 5% 0603 SMD; Storage Location: PCB Assembly WS; Supplier: ECE Dept; Value: 12R
simulation model RESISTOR (Resistor)
signal-integrity model Res
footprint RESC1608L (Chip Resistor, Body 1.6x0.8mm, IPC High Density)
footprint RESC1608N (Chip Resistor, Body 1.6x0.8mm, IPC Medium Density)
pins: 1, 2

## RS_13K
designator R??, comment 13K
RES 13K OHM 1/10W 5% 0603 SMD; Storage Location: PCB Assembly WS; Supplier: ECE Dept; Value: 13K
simulation model RESISTOR (Resistor)
signal-integrity model Res
footprint RESC1608L (Chip Resistor, Body 1.6x0.8mm, IPC High Density)
footprint RESC1608N (Chip Resistor, Body 1.6x0.8mm, IPC Medium Density)
pins: 1, 2

## RS_15K
designator R??, comment 15K
RES 15.0K OHM 1/10W 5% 0603 SMD; Storage Location: PCB Assembly WS; Supplier: ECE Dept; Value: 15K
simulation model RESISTOR (Resistor)
signal-integrity model Res
footprint RESC1608L (Chip Resistor, Body 1.6x0.8mm, IPC High Density)
footprint RESC1608N (Chip Resistor, Body 1.6x0.8mm, IPC Medium Density)
pins: 1, 2

## RS_15R
designator R??, comment 15R
RES 15 OHM 1/10W 5% 0603 SMD; Storage Location: PCB Assembly WS; Supplier: ECE Dept; Value: 15R
simulation model RESISTOR (Resistor)
signal-integrity model Res
footprint RESC1608L (Chip Resistor, Body 1.6x0.8mm, IPC High Density)
footprint RESC1608N (Chip Resistor, Body 1.6x0.8mm, IPC Medium Density)
pins: 1, 2

## RS_16K
designator R??, comment 16K
RES 16K OHM 1/10W 5% 0603 SMD; Storage Location: PCB Assembly WS; Supplier: ECE Dept; Value: 16K
simulation model RESISTOR (Resistor)
signal-integrity model Res
footprint RESC1608L (Chip Resistor, Body 1.6x0.8mm, IPC High Density)
footprint RESC1608N (Chip Resistor, Body 1.6x0.8mm, IPC Medium Density)
pins: 1, 2

## RS_16R
designator R??, comment 16R
RES 16 OHM 1/10W 5% 0603 SMD; Storage Location: PCB Assembly WS; Supplier: ECE Dept; Value: 16R
simulation model RESISTOR (Resistor)
signal-integrity model Res
footprint RESC1608L (Chip Resistor, Body 1.6x0.8mm, IPC High Density)
footprint RESC1608N (Chip Resistor, Body 1.6x0.8mm, IPC Medium Density)
pins: 1, 2

## RS_18K
designator R??, comment 18K
RES 18K OHM 1/10W 5% 0603 SMD; Storage Location: PCB Assembly WS; Supplier: ECE Dept; Value: 18K
simulation model RESISTOR (Resistor)
signal-integrity model Res
footprint RESC1608L (Chip Resistor, Body 1.6x0.8mm, IPC High Density)
footprint RESC1608N (Chip Resistor, Body 1.6x0.8mm, IPC Medium Density)
pins: 1, 2

## RS_18R
designator R??, comment 18R
RES 18 OHM 1/10W 5% 0603 SMD; Storage Location: PCB Assembly WS; Supplier: ECE Dept; Value: 18R
simulation model RESISTOR (Resistor)
signal-integrity model Res
footprint RESC1608L (Chip Resistor, Body 1.6x0.8mm, IPC High Density)
footprint RESC1608N (Chip Resistor, Body 1.6x0.8mm, IPC Medium Density)
pins: 1, 2

## RS_20K
designator R??, comment 20K
RES 20K OHM 1/10W 5% 0603 SMD; Storage Location: PCB Assembly WS; Supplier: ECE Dept; Value: 20K
simulation model RESISTOR (Resistor)
signal-integrity model Res
footprint RESC1608L (Chip Resistor, Body 1.6x0.8mm, IPC High Density)
footprint RESC1608N (Chip Resistor, Body 1.6x0.8mm, IPC Medium Density)
pins: 1, 2

## RS_20R
designator R??, comment 20R
RES 20 OHM 1/10W 5% 0603 SMD; Storage Location: PCB Assembly WS; Supplier: ECE Dept; Value: 20R
simulation model RESISTOR (Resistor)
signal-integrity model Res
footprint RESC1608L (Chip Resistor, Body 1.6x0.8mm, IPC High Density)
footprint RESC1608N (Chip Resistor, Body 1.6x0.8mm, IPC Medium Density)
pins: 1, 2

## RS_22K
designator R??, comment 22K
RES 22.0K OHM 1/10W 5% 0603 SMD; Storage Location: PCB Assembly WS; Supplier: ECE Dept; Value: 22K
simulation model RESISTOR (Resistor)
signal-integrity model Res
footprint RESC1608L (Chip Resistor, Body 1.6x0.8mm, IPC High Density)
footprint RESC1608N (Chip Resistor, Body 1.6x0.8mm, IPC Medium Density)
pins: 1, 2

## RS_22R
designator R??, comment 22R
RES 22 OHM 1/10W 5% 0603 SMD; Storage Location: PCB Assembly WS; Supplier: ECE Dept; Value: 22R
simulation model RESISTOR (Resistor)
signal-integrity model Res
footprint RESC1608L (Chip Resistor, Body 1.6x0.8mm, IPC High Density)
footprint RESC1608N (Chip Resistor, Body 1.6x0.8mm, IPC Medium Density)
pins: 1, 2

## RS_24K
designator R??, comment 24K
RES 24K OHM 1/10W 5% 0603 SMD; Storage Location: PCB Assembly WS; Supplier: ECE Dept; Value: 24K
simulation model RESISTOR (Resistor)
signal-integrity model Res
footprint RESC1608L (Chip Resistor, Body 1.6x0.8mm, IPC High Density)
footprint RESC1608N (Chip Resistor, Body 1.6x0.8mm, IPC Medium Density)
pins: 1, 2

## RS_24R
designator R??, comment 24R
RES 24 OHM 1/10W 5% 0603 SMD; Storage Location: PCB Assembly WS; Supplier: ECE Dept; Value: 24R
simulation model RESISTOR (Resistor)
signal-integrity model Res
footprint RESC1608L (Chip Resistor, Body 1.6x0.8mm, IPC High Density)
footprint RESC1608N (Chip Resistor, Body 1.6x0.8mm, IPC Medium Density)
pins: 1, 2

## RS_27K
designator R??, comment 27K
RES 27K OHM 1/10W 5% 0603 SMD; Storage Location: PCB Assembly WS; Supplier: ECE Dept; Value: 27K
simulation model RESISTOR (Resistor)
signal-integrity model Res
footprint RESC1608L (Chip Resistor, Body 1.6x0.8mm, IPC High Density)
footprint RESC1608N (Chip Resistor, Body 1.6x0.8mm, IPC Medium Density)
pins: 1, 2

## RS_27R
designator R??, comment 27R
RES 27 OHM 1/10W 5% 0603 SMD; Storage Location: PCB Assembly WS; Supplier: ECE Dept; Value: 27R
simulation model RESISTOR (Resistor)
signal-integrity model Res
footprint RESC1608L (Chip Resistor, Body 1.6x0.8mm, IPC High Density)
footprint RESC1608N (Chip Resistor, Body 1.6x0.8mm, IPC Medium Density)
pins: 1, 2

## RS_30K
designator R??, comment 30K
RES 30K OHM 1/10W 5% 0603 SMD; Storage Location: PCB Assembly WS; Supplier: ECE Dept; Value: 30K
simulation model RESISTOR (Resistor)
signal-integrity model Res
footprint RESC1608L (Chip Resistor, Body 1.6x0.8mm, IPC High Density)
footprint RESC1608N (Chip Resistor, Body 1.6x0.8mm, IPC Medium Density)
pins: 1, 2

## RS_30R
designator R?, comment 30R
RES 30 OHM 1/10W 5% 0603 SMD; Storage Location: PCB Assembly WS; Supplier: ECE Dept; Value: 30R
simulation model RESISTOR (Resistor)
signal-integrity model Res
footprint RESC1608L (Chip Resistor, Body 1.6x0.8mm, IPC High Density)
footprint RESC1608N (Chip Resistor, Body 1.6x0.8mm, IPC Medium Density)
pins: 1, 2

## RS_33K
designator R??, comment 33K
RES 33.0K OHM 1/10W 5% 0603 SMD; Storage Location: PCB Assembly WS; Supplier: ECE Dept; Value: 33K
simulation model RESISTOR (Resistor)
signal-integrity model Res
footprint RESC1608L (Chip Resistor, Body 1.6x0.8mm, IPC High Density)
footprint RESC1608N (Chip Resistor, Body 1.6x0.8mm, IPC Medium Density)
pins: 1, 2

## RS_33R
designator R?, comment 33R
RES 33 OHM 1/10W 5% 0603 SMD; Storage Location: PCB Assembly WS; Supplier: ECE Dept; Value: 33R
simulation model RESISTOR (Resistor)
signal-integrity model Res
footprint RESC1608L (Chip Resistor, Body 1.6x0.8mm, IPC High Density)
footprint RESC1608N (Chip Resistor, Body 1.6x0.8mm, IPC Medium Density)
pins: 1, 2

## RS_36K
designator R?, comment 36K
RES 36K OHM 1/10W 5% 0603 SMD; Storage Location: PCB Assembly WS; Supplier: ECE Dept; Value: 36K
simulation model RESISTOR (Resistor)
signal-integrity model Res
footprint RESC1608L (Chip Resistor, Body 1.6x0.8mm, IPC High Density)
footprint RESC1608N (Chip Resistor, Body 1.6x0.8mm, IPC Medium Density)
pins: 1, 2

## RS_36R
designator R?, comment 36R
RES 36 OHM 1/10W 5% 0603 SMD; Storage Location: PCB Assembly WS; Supplier: ECE Dept; Value: 36R
simulation model RESISTOR (Resistor)
signal-integrity model Res
footprint RESC1608L (Chip Resistor, Body 1.6x0.8mm, IPC High Density)
footprint RESC1608N (Chip Resistor, Body 1.6x0.8mm, IPC Medium Density)
pins: 1, 2

## RS_39K
designator R?, comment 39K
RES 39K OHM 1/10W 5% 0603 SMD; Storage Location: PCB Assembly WS; Supplier: ECE Dept; Value: 39K
simulation model RESISTOR (Resistor)
signal-integrity model Res
footprint RESC1608L (Chip Resistor, Body 1.6x0.8mm, IPC High Density)
footprint RESC1608N (Chip Resistor, Body 1.6x0.8mm, IPC Medium Density)
pins: 1, 2

## RS_39R
designator R?, comment 39R
RES 39 OHM 1/10W 5% 0603 SMD; Storage Location: PCB Assembly WS; Supplier: ECE Dept; Value: 39R
simulation model RESISTOR (Resistor)
signal-integrity model Res
footprint RESC1608L (Chip Resistor, Body 1.6x0.8mm, IPC High Density)
footprint RESC1608N (Chip Resistor, Body 1.6x0.8mm, IPC Medium Density)
pins: 1, 2

## RS_43K
designator R?, comment 43K
RES 43K OHM 1/10W 5% 0603 SMD; Storage Location: PCB Assembly WS; Supplier: ECE Dept; Value: 43K
simulation model RESISTOR (Resistor)
signal-integrity model Res
footprint RESC1608L (Chip Resistor, Body 1.6x0.8mm, IPC High Density)
footprint RESC1608N (Chip Resistor, Body 1.6x0.8mm, IPC Medium Density)
pins: 1, 2

## RS_43R
designator R?, comment 43R
RES 43 OHM 1/10W 5% 0603 SMD; Storage Location: PCB Assembly WS; Supplier: ECE Dept; Value: 43R
simulation model RESISTOR (Resistor)
signal-integrity model Res
footprint RESC1608L (Chip Resistor, Body 1.6x0.8mm, IPC High Density)
footprint RESC1608N (Chip Resistor, Body 1.6x0.8mm, IPC Medium Density)
pins: 1, 2

## RS_47K
designator R??, comment 47K
RES 47.0K OHM 1/10W 5% 0603 SMD; Storage Location: PCB Assembly WS; Supplier: ECE Dept; Value: 47K
simulation model RESISTOR (Resistor)
signal-integrity model Res
footprint RESC1608N (Chip Resistor, Body 1.6x0.8mm, IPC Medium Density)
footprint RESC1608L (Chip Resistor, Body 1.6x0.8mm, IPC High Density)
pins: 1, 2

## RS_47R
designator R??, comment 47R
RES 47 OHM 1/10W 5% 0603 SMD; Storage Location: PCB Assembly WS; Supplier: ECE Dept; Value: 47R
simulation model RESISTOR (Resistor)
signal-integrity model Res
footprint RESC1608L (Chip Resistor, Body 1.6x0.8mm, IPC High Density)
footprint RESC1608N (Chip Resistor, Body 1.6x0.8mm, IPC Medium Density)
pins: 1, 2

## RS_51K
designator R??, comment 51K
RES 51.0K OHM 1/10W 5% 0603 SMD; Storage Location: PCB Assembly WS; Supplier: ECE Dept; Value: 51K
simulation model RESISTOR (Resistor)
signal-integrity model Res
footprint RESC1608L (Chip Resistor, Body 1.6x0.8mm, IPC High Density)
footprint RESC1608N (Chip Resistor, Body 1.6x0.8mm, IPC Medium Density)
pins: 1, 2

## RS_51R
designator R?, comment 51R
RES 51 OHM 1/10W 5% 0603 SMD; Storage Location: PCB Assembly WS; Supplier: ECE Dept; Value: 51R
simulation model RESISTOR (Resistor)
signal-integrity model Res
footprint RESC1608L (Chip Resistor, Body 1.6x0.8mm, IPC High Density)
footprint RESC1608N (Chip Resistor, Body 1.6x0.8mm, IPC Medium Density)
pins: 1, 2

## RS_56K
designator R?, comment 56K
RES 56.0K OHM 1/10W 5% 0603 SMD; Storage Location: PCB Assembly WS; Supplier: ECE Dept; Value: 56K
simulation model RESISTOR (Resistor)
signal-integrity model Res
footprint RESC1608L (Chip Resistor, Body 1.6x0.8mm, IPC High Density)
footprint RESC1608N (Chip Resistor, Body 1.6x0.8mm, IPC Medium Density)
pins: 1, 2

## RS_56R
designator R?, comment 56R
RES 56 OHM 1/10W 5% 0603 SMD; Storage Location: PCB Assembly WS; Supplier: ECE Dept; Value: 56R
simulation model RESISTOR (Resistor)
signal-integrity model Res
footprint RESC1608L (Chip Resistor, Body 1.6x0.8mm, IPC High Density)
footprint RESC1608N (Chip Resistor, Body 1.6x0.8mm, IPC Medium Density)
pins: 1, 2

## RS_62K
designator R?, comment 62K
RES 62.0K OHM 1/10W 5% 0603 SMD; Storage Location: PCB Assembly WS; Supplier: ECE Dept; Value: 62K
simulation model RESISTOR (Resistor)
signal-integrity model Res
footprint RESC1608L (Chip Resistor, Body 1.6x0.8mm, IPC High Density)
footprint RESC1608N (Chip Resistor, Body 1.6x0.8mm, IPC Medium Density)
pins: 1, 2

## RS_62R
designator R?, comment 62R
RES 62 OHM 1/10W 5% 0603 SMD; Storage Location: PCB Assembly WS; Supplier: ECE Dept; Value: 62R
simulation model RESISTOR (Resistor)
signal-integrity model Res
footprint RESC1608L (Chip Resistor, Body 1.6x0.8mm, IPC High Density)
footprint RESC1608N (Chip Resistor, Body 1.6x0.8mm, IPC Medium Density)
pins: 1, 2

## RS_68K
designator R?, comment 68K
RES 68.0K OHM 1/10W 5% 0603 SMD; Storage Location: PCB Assembly WS; Supplier: ECE Dept; Value: 68K
simulation model RESISTOR (Resistor)
signal-integrity model Res
footprint RESC1608L (Chip Resistor, Body 1.6x0.8mm, IPC High Density)
footprint RESC1608N (Chip Resistor, Body 1.6x0.8mm, IPC Medium Density)
pins: 1, 2

## RS_68R
designator R?, comment 68R
RES 68 OHM 1/10W 5% 0603 SMD; Storage Location: PCB Assembly WS; Supplier: ECE Dept; Value: 68R
simulation model RESISTOR (Resistor)
signal-integrity model Res
footprint RESC1608L (Chip Resistor, Body 1.6x0.8mm, IPC High Density)
footprint RESC1608N (Chip Resistor, Body 1.6x0.8mm, IPC Medium Density)
pins: 1, 2

## RS_75K
designator R?, comment 75K
RES 75.0K OHM 1/10W 5% 0603 SMD; Storage Location: PCB Assembly WS; Supplier: ECE Dept; Value: 75K
simulation model RESISTOR (Resistor)
signal-integrity model Res
footprint RESC1608L (Chip Resistor, Body 1.6x0.8mm, IPC High Density)
footprint RESC1608N (Chip Resistor, Body 1.6x0.8mm, IPC Medium Density)
pins: 1, 2

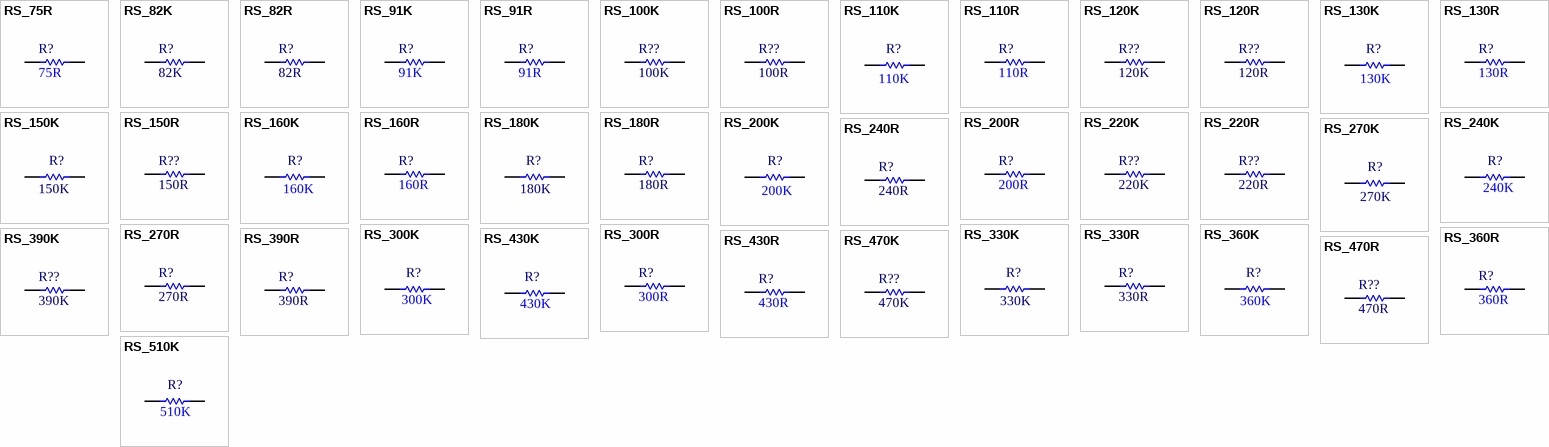
[diagram p9: symbols RS_75R to RS_510K]

## RS_75R
designator R?, comment 75R
RES 75 OHM 1/10W 5% 0603 SMD; Storage Location: PCB Assembly WS; Supplier: ECE Dept; Value: 75R
simulation model RESISTOR (Resistor)
signal-integrity model Res
footprint RESC1608L (Chip Resistor, Body 1.6x0.8mm, IPC High Density)
footprint RESC1608N (Chip Resistor, Body 1.6x0.8mm, IPC Medium Density)
pins: 1, 2

## RS_82K
designator R?, comment 82K
RES 82.0K OHM 1/10W 5% 0603 SMD; Storage Location: PCB Assembly WS; Supplier: ECE Dept; Value: 82K
simulation model RESISTOR (Resistor)
signal-integrity model Res
footprint RESC1608L (Chip Resistor, Body 1.6x0.8mm, IPC High Density)
footprint RESC1608N (Chip Resistor, Body 1.6x0.8mm, IPC Medium Density)
pins: 1, 2

## RS_82R
designator R?, comment 82R
RES 82 OHM 1/10W 5% 0603 SMD; Storage Location: PCB Assembly WS; Supplier: ECE Dept; Value: 82R
simulation model RESISTOR (Resistor)
signal-integrity model Res
footprint RESC1608L (Chip Resistor, Body 1.6x0.8mm, IPC High Density)
footprint RESC1608N (Chip Resistor, Body 1.6x0.8mm, IPC Medium Density)
pins: 1, 2

## RS_91K
designator R?, comment 91K
RES 91.0K OHM 1/10W 5% 0603 SMD; Storage Location: PCB Assembly WS; Supplier: ECE Dept; Value: 91K
simulation model RESISTOR (Resistor)
signal-integrity model Res
footprint RESC1608L (Chip Resistor, Body 1.6x0.8mm, IPC High Density)
footprint RESC1608N (Chip Resistor, Body 1.6x0.8mm, IPC Medium Density)
pins: 1, 2

## RS_91R
designator R?, comment 91R
RES 91 OHM 1/10W 5% 0603 SMD; Storage Location: PCB Assembly WS; Supplier: ECE Dept; Value: 91R
simulation model RESISTOR (Resistor)
signal-integrity model Res
footprint RESC1608L (Chip Resistor, Body 1.6x0.8mm, IPC High Density)
footprint RESC1608N (Chip Resistor, Body 1.6x0.8mm, IPC Medium Density)
pins: 1, 2

## RS_100K
designator R??, comment 100K
RES 100K OHM 1/10W 5% 0603 SMD; Storage Location: PCB Assembly WS; Supplier: ECE Dept; Value: 100K
simulation model RESISTOR (Resistor)
signal-integrity model Res
footprint RESC1608L (Chip Resistor, Body 1.6x0.8mm, IPC High Density)
footprint RESC1608N (Chip Resistor, Body 1.6x0.8mm, IPC Medium Density)
pins: 1, 2

## RS_100R
designator R??, comment 100R
RES 100 OHM 1/10W 5% 0603 SMD; Storage Location: PCB Assembly WS; Supplier: ECE Dept; Value: 100R
simulation model RESISTOR (Resistor)
signal-integrity model Res
footprint RESC1608L (Chip Resistor, Body 1.6x0.8mm, IPC High Density)
footprint RESC1608N (Chip Resistor, Body 1.6x0.8mm, IPC Medium Density)
pins: 1, 2

## RS_110K
designator R?, comment 110K
RES 110K OHM 1/10W 5% 0603 SMD; Storage Location: PCB Assembly WS; Supplier: ECE Dept; Value: 110K
footprint RESC1608L (Chip Resistor, Body 1.6x0.8mm, IPC High Density)
footprint RESC1608N (Chip Resistor, Body 1.6x0.8mm, IPC Medium Density)
signal-integrity model Res (Model Description)
simulation model RES (resistor)
pins: 1, 2

## RS_110R
designator R?, comment 110R
RES 110 OHM 1/10W 5% 0603 SMD; Storage Location: PCB Assembly WS; Supplier: ECE Dept; Value: 110R
simulation model RESISTOR (Resistor)
signal-integrity model Res
footprint RESC1608L (Chip Resistor, Body 1.6x0.8mm, IPC High Density)
footprint RESC1608N (Chip Resistor, Body 1.6x0.8mm, IPC Medium Density)
pins: 1, 2

## RS_120K
designator R??, comment 120K
RES 120K OHM 1/10W 5% 0603 SMD; Storage Location: PCB Assembly WS; Supplier: ECE Dept; Value: 120K
simulation model RESISTOR (Resistor)
signal-integrity model Res
footprint RESC1608L (Chip Resistor, Body 1.6x0.8mm, IPC High Density)
footprint RESC1608N (Chip Resistor, Body 1.6x0.8mm, IPC Medium Density)
pins: 1, 2

## RS_120R
designator R??, comment 120R
RES 120 OHM 1/10W 5% 0603 SMD; Storage Location: PCB Assembly WS; Supplier: ECE Dept; Value: 120R
simulation model RESISTOR (Resistor)
signal-integrity model Res
footprint RESC1608L (Chip Resistor, Body 1.6x0.8mm, IPC High Density)
footprint RESC1608N (Chip Resistor, Body 1.6x0.8mm, IPC Medium Density)
pins: 1, 2

## RS_130K
designator R?  value 130K
RES 130K OHM 1/10W 5% 0603 SMD; Storage Location: PCB Assembly WS; Supplier: ECE Dept
footprint RESC1608L (Chip Resistor, Body 1.6x0.8mm, IPC High Density)
footprint RESC1608N (Chip Resistor, Body 1.6x0.8mm, IPC Medium Density)
signal-integrity model Res (Model Description)
simulation model RES (resistor)
pins: 1, 2

## RS_130R
designator R?, comment 130R
RES 130 OHM 1/10W 5% 0603 SMD; Storage Location: PCB Assembly WS; Supplier: ECE Dept; Value: 130R
simulation model RESISTOR (Resistor)
signal-integrity model Res
footprint RESC1608L (Chip Resistor, Body 1.6x0.8mm, IPC High Density)
footprint RESC1608N (Chip Resistor, Body 1.6x0.8mm, IPC Medium Density)
pins: 1, 2

## RS_150K
designator R?, comment 150K
RES 150K OHM 1/10W 5% 0603 SMD; Storage Location: PCB Assembly WS; Supplier: ECE Dept; Value: 150K
footprint RESC1608L (Chip Resistor, Body 1.6x0.8mm, IPC High Density)
footprint RESC1608N (Chip Resistor, Body 1.6x0.8mm, IPC Medium Density)
signal-integrity model Res (Model Description)
simulation model RES (resistor)
pins: 1, 2

## RS_150R
designator R??, comment 150R
RES 150 OHM 1/10W 5% 0603 SMD; Storage Location: PCB Assembly WS; Supplier: ECE Dept; Value: 150R
simulation model RESISTOR (Resistor)
signal-integrity model Res
footprint RESC1608L (Chip Resistor, Body 1.6x0.8mm, IPC High Density)
footprint RESC1608N (Chip Resistor, Body 1.6x0.8mm, IPC Medium Density)
pins: 1, 2

## RS_160K
designator R?, comment 160K
RES 160K OHM 1/10W 5% 0603 SMD; Storage Location: PCB Assembly WS; Supplier: ECE Dept; Value: 160K
footprint RESC1608L (Chip Resistor, Body 1.6x0.8mm, IPC High Density)
footprint RESC1608N (Chip Resistor, Body 1.6x0.8mm, IPC Medium Density)
signal-integrity model Res (Model Description)
simulation model RES (resistor)
pins: 1, 2

## RS_160R
designator R?, comment 160R
RES 160 OHM 1/10W 5% 0603 SMD; Storage Location: PCB Assembly WS; Supplier: ECE Dept; Value: 160R
simulation model RESISTOR (Resistor)
signal-integrity model Res
footprint RESC1608L (Chip Resistor, Body 1.6x0.8mm, IPC High Density)
footprint RESC1608N (Chip Resistor, Body 1.6x0.8mm, IPC Medium Density)
pins: 1, 2

## RS_180K
designator R?  value 180K
RES 180K OHM 1/10W 5% 0603 SMD; Storage Location: PCB Assembly WS; Supplier: ECE Dept
footprint RESC1608L (Chip Resistor, Body 1.6x0.8mm, IPC High Density)
footprint RESC1608N (Chip Resistor, Body 1.6x0.8mm, IPC Medium Density)
signal-integrity model Res (Model Description)
simulation model RES (resistor)
pins: 1, 2

## RS_180R
designator R?, comment 180R
RES 180 OHM 1/10W 5% 0603 SMD; Storage Location: PCB Assembly WS; Supplier: ECE Dept; Value: 180R
simulation model RESISTOR (Resistor)
signal-integrity model Res
footprint RESC1608L (Chip Resistor, Body 1.6x0.8mm, IPC High Density)
footprint RESC1608N (Chip Resistor, Body 1.6x0.8mm, IPC Medium Density)
pins: 1, 2

## RS_200K
designator R?, comment 200K
RES 200K OHM 1/10W 5% 0603 SMD; Storage Location: PCB Assembly WS; Supplier: ECE Dept; Value: 200K
footprint RESC1608L (Chip Resistor, Body 1.6x0.8mm, IPC High Density)
footprint RESC1608N (Chip Resistor, Body 1.6x0.8mm, IPC Medium Density)
signal-integrity model Res (Model Description)
simulation model RES (resistor)
pins: 1, 2

## RS_200R
designator R?, comment 200R
RES 200 OHM 1/10W 5% 0603 SMD; Storage Location: PCB Assembly WS; Supplier: ECE Dept; Value: 200R
simulation model RESISTOR (Resistor)
signal-integrity model Res
footprint RESC1608L (Chip Resistor, Body 1.6x0.8mm, IPC High Density)
footprint RESC1608N (Chip Resistor, Body 1.6x0.8mm, IPC Medium Density)
pins: 1, 2

## RS_220K
designator R??, comment 220K
RES 3.3K OHM 1/10W 5% 0603 SMD; Storage Location: PCB Assembly WS; Supplier: ECE Dept; Value: 220K
simulation model RESISTOR (Resistor)
signal-integrity model Res
footprint RESC1608L (Chip Resistor, Body 1.6x0.8mm, IPC High Density)
footprint RESC1608N (Chip Resistor, Body 1.6x0.8mm, IPC Medium Density)
pins: 1, 2

## RS_220R
designator R??, comment 220R
RES 220 OHM 1/10W 5% 0603 SMD; Storage Location: PCB Assembly WS; Supplier: ECE Dept; Value: 220R
simulation model RESISTOR (Resistor)
signal-integrity model Res
footprint RESC1608L (Chip Resistor, Body 1.6x0.8mm, IPC High Density)
footprint RESC1608N (Chip Resistor, Body 1.6x0.8mm, IPC Medium Density)
pins: 1, 2

## RS_240K
designator R?, comment 240K
RES 240K OHM 1/10W 5% 0603 SMD; Storage Location: PCB Assembly WS; Supplier: ECE Dept; Value: 240K
footprint RESC1608L (Chip Resistor, Body 1.6x0.8mm, IPC High Density)
footprint RESC1608N (Chip Resistor, Body 1.6x0.8mm, IPC Medium Density)
signal-integrity model Res (Model Description)
simulation model RES (resistor)
pins: 1, 2